# Altium schematic symbol library PINHEADER-3x1.Schlib: 1 symbol
Pins are listed as number, name and electrical type; pins without a type are passive.

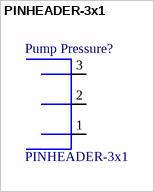
[diagram p0: symbol PINHEADER-3x1]

## PINHEADER-3x1
designator Pump Pressure?
3 Pin Header
pins: 1, 2, 3